# Altium footprint library SW_TILT_Comus_CW1300-1.PcbLib: 1 footprints
Each footprint in its own frame and in the unit in brackets; x right, y up, seen from the top. Pads: shape width x height; smd on the part's side, far side on the other; paste and mask are expansions set on the pad; w line width, h text height; cw(c..) or ccw(c..) is an arc to the next point about the centre after c.
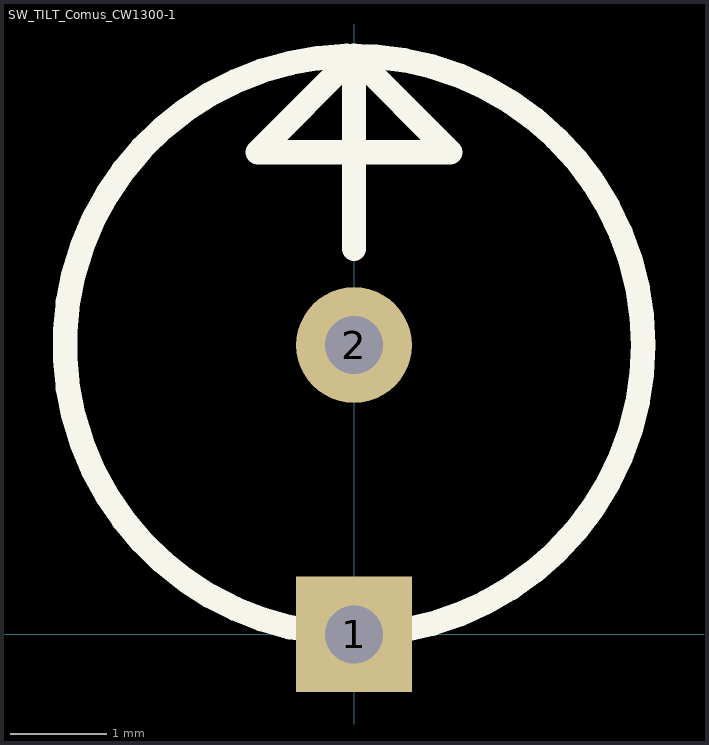
[diagram p0: the footprint, top view; thin cyan lines are the x and y axes]

## SW_TILT_Comus_CW1300-1 [mm]
pads (2):
  rect 1.2x1.2 hole 0.6: 1(0,0)
  round 1.2 hole 0.6: 2(0,3)
Top Overlay:
  circle w0.254: c0,3 r3
  lines w0.254: 0,4 0,6 ; 0,6 1,5 -1,5 0,6
3D body: height 10, standoff 0, extent -2.976,0.006 3,5.994